# Altium schematic symbol library 3W Supply.SchLib: 1 symbol
Pins are listed as number, name and electrical type; pins without a type are passive.

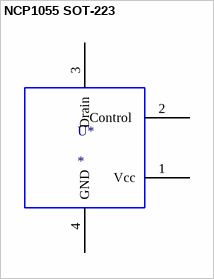
[diagram p0: symbol NCP1055 SOT-223]

## NCP1055 SOT-223
designator U*
footprint NCP1055 SOT-223 (SOT223, 4-Leads, Body 6.50x7.00mm (avg), Pitch 2.30mm, IPC Medium Density)
pins: 1 Vcc, 2 Control , 3 Drain, 4 GND